# Altium schematic symbol library BSC028N06NSATMA1.SchLib: 2 symbols
Pins are listed as number, name and electrical type; pins without a type are passive.

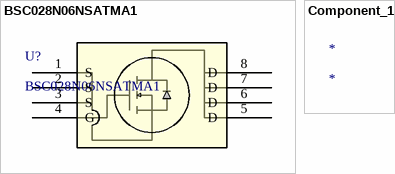
[diagram p0: symbols BSC028N06NSATMA1 to Component_1]

## BSC028N06NSATMA1
designator U?
No Description Available; Mfr_Name: Infineon; Copyright: Copyright (C) 2022 Ultra Librarian. All rights reserved.; Manufacturer_Part_Number: BSC028N06NSATMA1; RefDes: RefDes; Type: DEV
footprint PG-TDSON-8_INF
pins: 1 S, 2 S, 3 S, 4 G, 5 D, 6 D, 7 D, 8 D

## Component_1
designator *